# Altium footprint library CPC.PcbLib: 10 footprints
Each footprint in its own frame and in the unit in brackets; x right, y up, seen from the top. Pads: shape width x height; smd on the part's side, far side on the other; paste and mask are expansions set on the pad; w line width, h text height; cw(c..) or ccw(c..) is an arc to the next point about the centre after c.
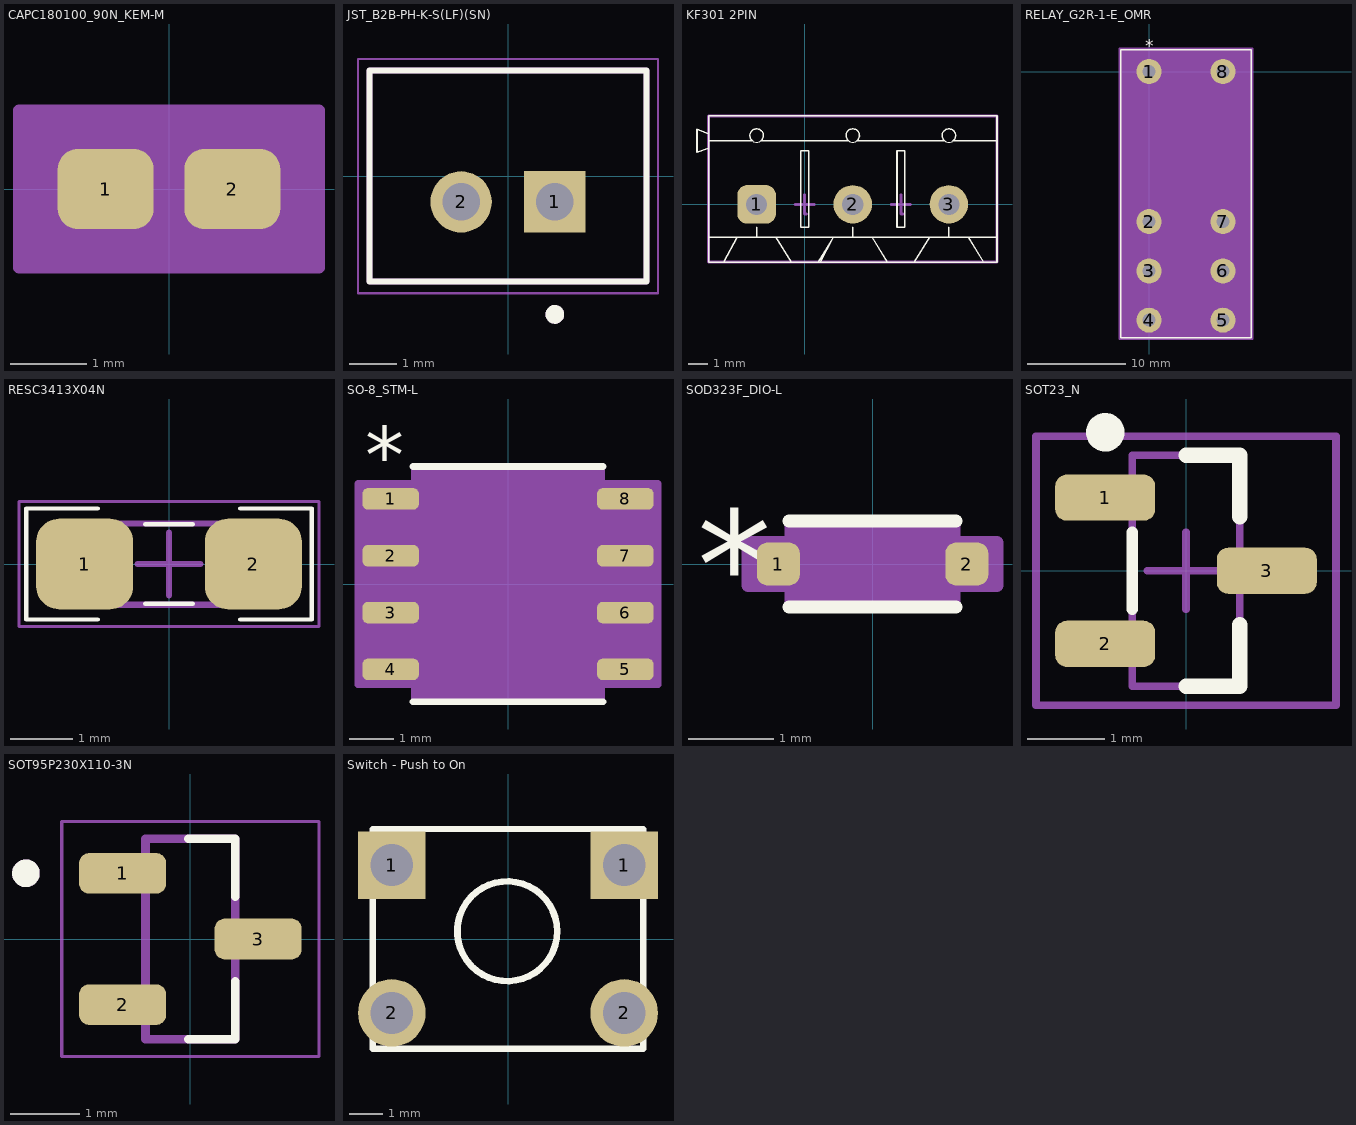
[diagram p0: the footprints below, top view; thin cyan lines are the x and y axes]

## CAPC180100_90N_KEM-M [mil]
pads (2):
  rrect50% 49.56x41.37 smd paste+0: 1(-32.65,0) 2(32.65,0)
Mechanical 13:
  lines w1: -35.43,-19.68 -35.43,19.68 ; -35.43,-19.68 35.43,-19.68 ; -35.43,-19.68 -15.75,-19.68 -15.75,19.68 -35.43,19.68 ; -35.43,-19.68 -35.43,19.68 ; -35.43,19.68 35.43,19.68 ; 35.43,-19.68 35.43,19.68 ; 35.43,-19.68 35.43,19.68 ; 35.43,-19.68 15.75,-19.68 15.75,19.68 35.43,19.68
Mechanical 15:
  region: 77.43,-40.69 -77.43,-40.69 -77.43,40.69 77.43,40.69
  lines w6: -77.43,-40.69 77.43,-40.69 77.43,40.69 -77.43,40.69 -77.43,-40.69
3D body "CAPC180100_90N_KEM.step": height 35.43, standoff 0, extent -35.43,-19.68 35.43,19.68

## JST_B2B-PH-K-S(LF)(SN) [mm]
pads (2):
  rect 1.308x1.308 hole 0.8: 1(1,-0.55)
  round 1.308 hole 0.8: 2(-1,-0.55)
Top Overlay:
  circle w0.2: c1,-2.95 r0.1
  lines w0.127: -2.95,-2.25 2.95,-2.25 2.95,2.25 -2.95,2.25 -2.95,-2.25
Mechanical 13:
  circle w0.2: c1,-2.95 r0.1
  lines w0.127: -2.95,-2.25 -2.95,2.25 2.95,2.25 2.95,-2.25 -2.95,-2.25
Mechanical 15:
  lines w0.05: -3.2,-2.5 -3.2,2.5 3.2,2.5 3.2,-2.5 -3.2,-2.5
3D body "step_temp.STEP": height 6, standoff -3.4, extent -2.95,-2.25 2.95,2.25

## KF301 2PIN [mm] "Designer Abbas Basereh"
height 7.5
pads (3):
  rrect50% 2x2 hole 1.1: 1(-2.5,0)
  round 2 hole 1.1: 2(2.5,0) 3(7.5,0)
Top Overlay:
  lines w0.013: -2.71,3.3 ccw(c-2.5,3.58) -2.29,3.3 ; 7.29,3.3 ccw(c7.5,3.58) 7.71,3.3 ; 2.29,3.3 ccw(c2.5,3.58) 2.71,3.3 cw(c2.5,3.58) 2.29,3.3
  lines w0.08: -4.2,-3 -3.5,-1.7 -1.5,-1.7 -0.7,-3 ; -2.5,-1.7 -2.5,-1.2 ; 0,-1.7 10,-1.7 ; 0,3.3 2.29,3.3 ; 0.7,-3 1.5,-1.7 ; 0.8,-3 1.5,-1.7 ; 5,-1.7 -5,-1.7 ; 5,3.3 2.71,3.3 ; 5.7,-3 6.5,-1.7 8.5,-1.7 9.3,-3 ; 7.5,-1.7 7.5,-1.2 ; -5.6,2.7 -5.6,3.9 ; -5.6,2.7 -5,2.918 ; -5.6,2.7 -5.6,3.9 ; -5.6,2.7 -5,2.918 ; -5.6,3.9 -5,3.682 ; -5.6,3.9 -5,3.682 ; -5,-3 -5,2.918 ; -5,-3 5,-3 -5,-3 ; -5,-3 -5,-1.7 ; -5,-1.7 -5,3.3 ; -5,3.3 -2.71,3.3 cw(c-2.5,3.58) -2.29,3.3 2.29,3.3 ; -5,3.3 -5,4.6 ; -5,3.682 -5,4.6 ; -5,4.6 5,4.6 -5,4.6 ; 1.5,-1.7 3.5,-1.7 ; 1.5,-1.7 3.5,-1.7 ; 2.29,3.3 cw(c2.5,3.58) 2.71,3.3 ; 2.29,3.3 cw(c2.5,3.58) 2.71,3.3 ; 2.71,3.3 7.29,3.3 cw(c7.5,3.58) 7.71,3.3 10,3.3 ; 3.5,-1.7 4.3,-3 3.5,-1.7 ; 10,-3 10,4.6 ; 10,-3 0,-3 10,-3 ; 10,-3 10,-1.7 ; 10,-1.7 10,3.3 ; 10,3.3 10,4.6 ; 10,4.6 0,4.6 10,4.6 ; -0.2,-1.2 0.2,-1.2 0.2,2.8 -0.2,2.8 -0.2,-1.2 ; 2.5,-1.7 2.5,-1.2 2.5,-1.7 ; 4.8,-1.2 4.8,2.8 5.2,2.8 5.2,-1.2 4.8,-1.2
Mechanical 15:
  lines w0.15: -0.5,0 0.5,0 ; 0,-3 10,-3 10,4.6 0,4.6 ; 0,0.5 0,-0.5 0.1,-0.5 ; 4.5,0 5.5,0 ; 5,-3 -5,-3 -5,4.6 5,4.6 ; 5,0.5 5,-0.5 5.1,-0.5
3D body "User Library-Terminal-Screw-3A-2way.STEP": height 10, standoff -3, extent -0.6,-3 10,4.6
3D body "User Library-Terminal-Screw-3A-2way.STEP": height 10, standoff -3, extent -5.6,-3 5,4.6

## RELAY_G2R-1-E_OMR [mil]
pads (8):
  round 100 hole 52 paste-36: 1(0,0) 2(0,-600) 3(0,-796.85) 4(0,-993.7) 5(295,-993.7) 6(295,-796.85) 7(295,-600) 8(295,0)
Top Overlay:
  lines w6: -113.5,-1064 -113.5,88 408.5,88 408.5,-1064 -113.5,-1064
  text "*" at -15,80 h50
Mechanical 13:
  lines w0: 135.5,83 ccw(c147.5,83) 159.5,83
  lines w1: -108.5,-1059 -108.5,83 403.5,83 403.5,-1059 -108.5,-1059
  text "*" at -12.5,81.23 h50
Mechanical 15:
  region: 403.5,-1059 -108.5,-1059 -108.5,83 403.5,83
  region: 413.5,-1069 -118.5,-1069 -118.5,93 413.5,93
  lines w6: -118.5,-1069 413.5,-1069 413.5,93 -118.5,93 -118.5,-1069
3D body "RELAY_G2R-1-E_OMR.step": height 1004.02, standoff -12.01, extent -108.5,-1059.02 403.5,82.99

## RESC3413X04N [mm] "Chip Resistor, 2-Leads, Body 3/40x1/30mm, IPC Medium Density-Design:Abbas Basereh"
height 0.4
pads (2):
  rrect50% 1.55x1.45 smd: 1(-1.35,0) 2(1.35,0)
Top Overlay:
  lines w0.07: -1.143,-0.889 -2.286,-0.889 -2.286,0.889 -1.143,0.889 ; -0.381,-0.635 0.381,-0.635 ; -0.381,0.635 0.381,0.635 ; 1.143,-0.889 2.286,-0.889 2.286,0.889 1.143,0.889
Mechanical 13:
  lines w0.1: -1.7,-0.65 1.7,-0.65 1.7,0.65 -1.7,0.65 -1.7,-0.65
Mechanical 15:
  lines w0.05: -2.4,-1 2.4,-1 2.4,1 -2.4,1 -2.4,-1
  lines w0.1: -0.5,0 0.5,0 ; 0,-0.5 0,0.5
3D body "User Library-0805(2012M) Res.STEP": height 0.79, standoff 0, extent -1.254,-0.622 1.254,0.622

## SO-8_STM-L [mil]
pads (8):
  rrect50% 49.5x19 smd paste+0 mask+0: 1(-103.25,75) 2(-103.25,25) 3(-103.25,-25) 4(-103.25,-75) 5(103.25,-75) 6(103.25,-25) 7(103.25,25) 8(103.25,75)
Top Overlay:
  lines w6: -83.5,-103.5 83.5,-103.5 ; -83.5,103.5 83.5,103.5
  text "*" at -125.75,89 h50
Mechanical 13:
  lines w0: -12,98.5 ccw(c0,98.5) 12,98.5
  lines w1: -122,-84.5 -122,-65.5 -78.5,-65.5 -78.5,-84.5 -122,-84.5 ; -122,-34.5 -122,-15.5 -78.5,-15.5 -78.5,-34.5 -122,-34.5 ; -122,15.5 -122,34.5 -78.5,34.5 -78.5,15.5 -122,15.5 ; -122,65.5 -122,84.5 -78.5,84.5 -78.5,65.5 -122,65.5 ; -78.5,-98.5 78.5,-98.5 78.5,98.5 -78.5,98.5 -78.5,-98.5 ; 78.5,-84.5 78.5,-65.5 122,-65.5 122,-84.5 78.5,-84.5 ; 78.5,-34.5 78.5,-15.5 122,-15.5 122,-34.5 78.5,-34.5 ; 78.5,15.5 78.5,34.5 122,34.5 122,15.5 78.5,15.5 ; 78.5,65.5 78.5,84.5 122,84.5 122,65.5 78.5,65.5
  text "*" at -76,45.5 h50
Mechanical 15:
  region: -82.5,-88.5 -132,-88.5 -132,88.5 -82.5,88.5 -82.5,102.5 82.5,102.5 82.5,88.5 132,88.5 132,-88.5 82.5,-88.5 82.5,-102.5 -82.5,-102.5
  lines w6: -132,-88.5 -132,88.5 -82.5,88.5 -82.5,102.5 82.5,102.5 82.5,88.5 132,88.5 132,-88.5 82.5,-88.5 82.5,-102.5 -82.5,-102.5 -82.5,-88.5 -132,-88.5
3D body "SO-8_STM.step": height 69.09, standoff 0, extent -122.01,-98.5 122.01,98.5

## SOD323F_DIO-L [mil]
pads (2):
  rrect50% 19.75x19.76 smd paste+0 mask+0: 1(-43.34,0) 2(43.34,0)
Top Overlay:
  lines w6: -38.46,-19.76 38.46,-19.76 ; -38.46,19.76 38.46,19.76
  text "*" at -80.71,-25 h50
Mechanical 13:
  lines w1: -33.46,-7.38 -26.08,-14.76 ; -33.46,7.38 -26.08,14.76 ; -49.21,-6.89 -49.21,6.89 -33.46,6.89 -33.46,-6.89 -49.21,-6.89 ; -33.46,-14.76 33.46,-14.76 33.46,14.76 -33.46,14.76 -33.46,-14.76 ; 33.46,-6.89 33.46,6.89 49.21,6.89 49.21,-6.89 33.46,-6.89
  text "*" at -35.96,-25 h50
Mechanical 15:
  region: -37.46,-9.89 -57.21,-9.89 -57.21,9.89 -37.46,9.89 -37.46,18.76 37.46,18.76 37.46,9.89 57.21,9.89 57.21,-9.89 37.46,-9.89 37.46,-18.76 -37.46,-18.76
  lines w6: -57.21,-9.89 -57.21,9.89 -37.46,9.89 -37.46,18.76 37.46,18.76 37.46,9.89 57.21,9.89 57.21,-9.89 37.46,-9.89 37.46,-18.76 -37.46,-18.76 -37.46,-9.89 -57.21,-9.89
3D body "SOD323F_DIO.step": height 32.24, standoff 0, extent -49.21,-14.76 49.21,14.76

## SOT23_N [mm] "SOT23, 3-Leads, Body 2.9x1.3mm, Pitch 0.95mm, Lead Span 2.3mm, IPC Medium Density"
height 1.1
pads (3):
  rrect50% 1.3x0.6 smd: 1(-1.05,0.95) 2(-1.05,-0.95) 3(1.05,0)
Top Overlay:
  circle w0.25: c-1.05,1.8 r0.125
  lines w0.15: -0.7,-0.5 -0.7,0.5
  lines w0.2: 0,-1.5 0.7,-1.5 0.7,-0.7 ; 0,1.5 0.7,1.5 0.7,0.7
Mechanical 13:
  lines w0.1: -0.7,-1.5 -0.7,1.5 0.7,1.5 0.7,-1.5 -0.7,-1.5
Mechanical 15:
  lines w0.1: -0.5,0 0.5,0 ; 0,-0.5 0,0.5 ; -1.95,-1.75 -1.95,1.75 1.95,1.75 1.95,-1.75 -1.95,-1.75
3D body "User Library-SOT-23-3-1.STEP": height 1.1, standoff 0, extent -1.271,-1.5 1.271,1.5

## SOT95P230X110-3N [mm]
height 1.1
pads (3):
  rrect50% 1.26x0.59 smd: 1(-0.98,0.95) 2(-0.98,-0.95) 3(0.98,0)
Top Overlay:
  circle w0.2: c-2.38,0.95 r0.1
  lines w0.127: -0.03,-1.45 0.65,-1.45 0.65,-0.615 ; -0.03,1.45 0.65,1.45 0.65,0.615
Mechanical 13:
  circle w0.2: c-2.38,0.95 r0.1
  lines w0.127: -0.65,-1.45 -0.65,1.45 0.65,1.45 0.65,-1.45 -0.65,-1.45
Mechanical 15:
  lines w0.05: -1.86,-1.7 -1.86,1.7 1.86,1.7 1.86,-1.7 -1.86,-1.7
3D body "step_temp.STEP": height 1.2, standoff 0, extent -1.2,-1.46 1.2,1.46

## Switch - Push to On [mil]
height 338.58
pads (4):
  rect 80x80 hole 50: 1(-137.5,87.5) 1(137.5,87.5)
  round 80 hole 50: 2(-137.5,-87.5) 2(137.5,-87.5)
Top Overlay:
  circle w7.87: c-0.89,9.15 r59.06
  lines w7: -160,130 160,130
  lines w7.87: -160,130 -160,-130 160,-130 160,130
3D body "SW3dPS-Touche DTS-6X_V2008.STEP": height 205.04, standoff -120.04, extent -154.9,-121.09 156.9,123